# EAGLE library part OPT3001 (library datchiki)
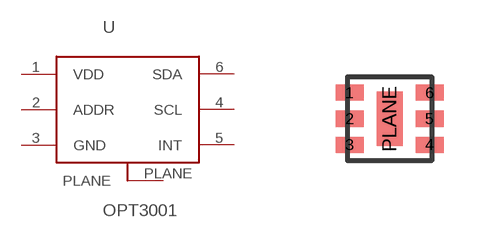
[diagram p0: symbol with the pads of OPT3001; footprint OPT3001]

Designator prefix -

## OPT3001  [OPT3001]
1  VDD  pwr
2  ADDR
3  GND  pwr
4  SCL
5  INT  out
6  SDA
PLANE  PLANE

## Footprint OPT3001 (pad centres in mm)
OPT3001 OPT3001 Ambient Light Sensor http://www.ti.com/lit/ds/symlink/opt3001.pdf
smd 0.7 x 0.4: 1 -1,0.65; 2 -1,0; 3 -1,-0.65; 4 1,-0.65; 5 1,0; 6 1,0.65
smd 0.65 x 1.35: PLANE 0,0